# Altium schematic symbol library Switches.SchLib: 8 symbols
Pins are listed as number, name and electrical type; pins without a type are passive.

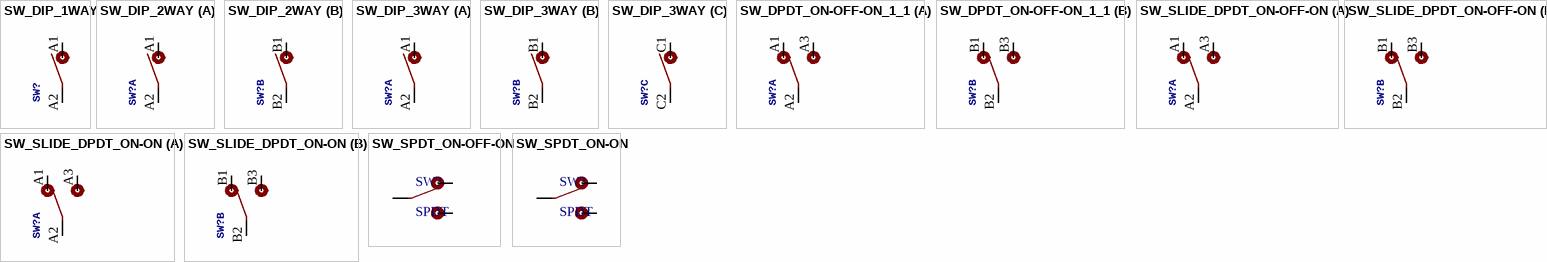
[diagram p0: symbols SW_DIP_1WAY to SW_SPDT_ON-ON]

## SW_DIP_1WAY
designator SW?, comment DIP  (value not drawn)
DIP Switch 1 way; Price: 0.1
footprint DIP_1WAY
pins: A1 1, A2 2

## SW_DIP_2WAY
designator SW?, comment DIP  (value not drawn)
DIP Switch 2 way; Price: 0.1
footprint DIP_2WAY
part A pins: A1 1, A2 2
part B pins: B1 1, B2 2

## SW_DIP_3WAY
designator SW?, comment DIP  (value not drawn)
DIP Switch 3 way; Price: 0.1
footprint DIP_3WAY
part A pins: A1, A2
part B pins: B1, B2
part C pins: C1, C2

## SW_DPDT_ON-OFF-ON_1_1
designator SW?, comment DPDT  (value not drawn)
DPDT toggle switch ON/OFF/ON; Price: 0.5
footprint DPDT
part A pins: A1 1, A2 2, A3 3
part B pins: B1 1, B2 2, B3 3

## SW_SLIDE_DPDT_ON-OFF-ON
designator SW?, comment DPDT  (value not drawn)
DPDT slide switch ON/OFF/ON; Price: 0.05
footprint DPDT_SLIDE
part A pins: A1 1, A2 2, A3 3
part B pins: B1 1, B2 2, B3 3

## SW_SLIDE_DPDT_ON-ON
designator SW?, comment DPDT  (value not drawn)
DPDT slide switch ON/ON; Price: 0.5
footprint DPDT_SLIDE
part A pins: A1 1, A2 2, A3 3
part B pins: B1 1, B2 2, B3 3

## SW_SPDT_ON-OFF-ON
designator SW?, comment SPDT
SPDT toggle switch ON/OFF/ON; Price: 0.5
footprint SPDT
pins: 1 O, 2 P, 3 S

## SW_SPDT_ON-ON
designator SW?, comment SPDT
SPDT toggle switch ON/ON; Price: 0.5
footprint SPDT
pins: 1 O, 2 P, 3 S